# EAGLE library part TC2030 (library MCE_Conectores)
Conector TC2030-MCP-NL
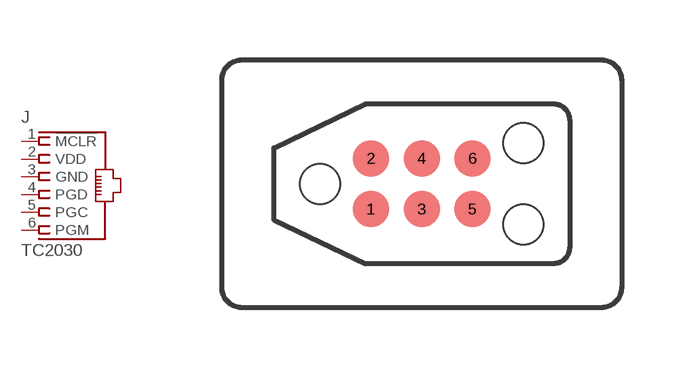
[diagram p12: symbol with the pads of TC2030_MCP_NL; footprint TC2030_MCP_NL]

Designator prefix J

## TC2030_MCP_NL  [TC2030_MCP_NL]
1  !MCLR  pas
2  VDD  pas
3  GND  pas
4  PGD  pas
5  PGC  pas
6  PGM  pas

## Footprint TC2030_MCP_NL (pad centres in mm)
smd 0.4 x 0.4: 1 -1.27,-0.635; 2 -1.27,0.635; 3 0,-0.635; 4 0,0.635; 5 1.27,-0.635; 6 1.27,0.635
hole 1 at 2.54,1.016
hole 1 at 2.54,-1.016
hole 1 at -2.54,0